# Altium schematic symbol library pre_CONNECTOR.SchLib: 51 symbols
Pins are listed as number, name and electrical type; pins without a type are passive.

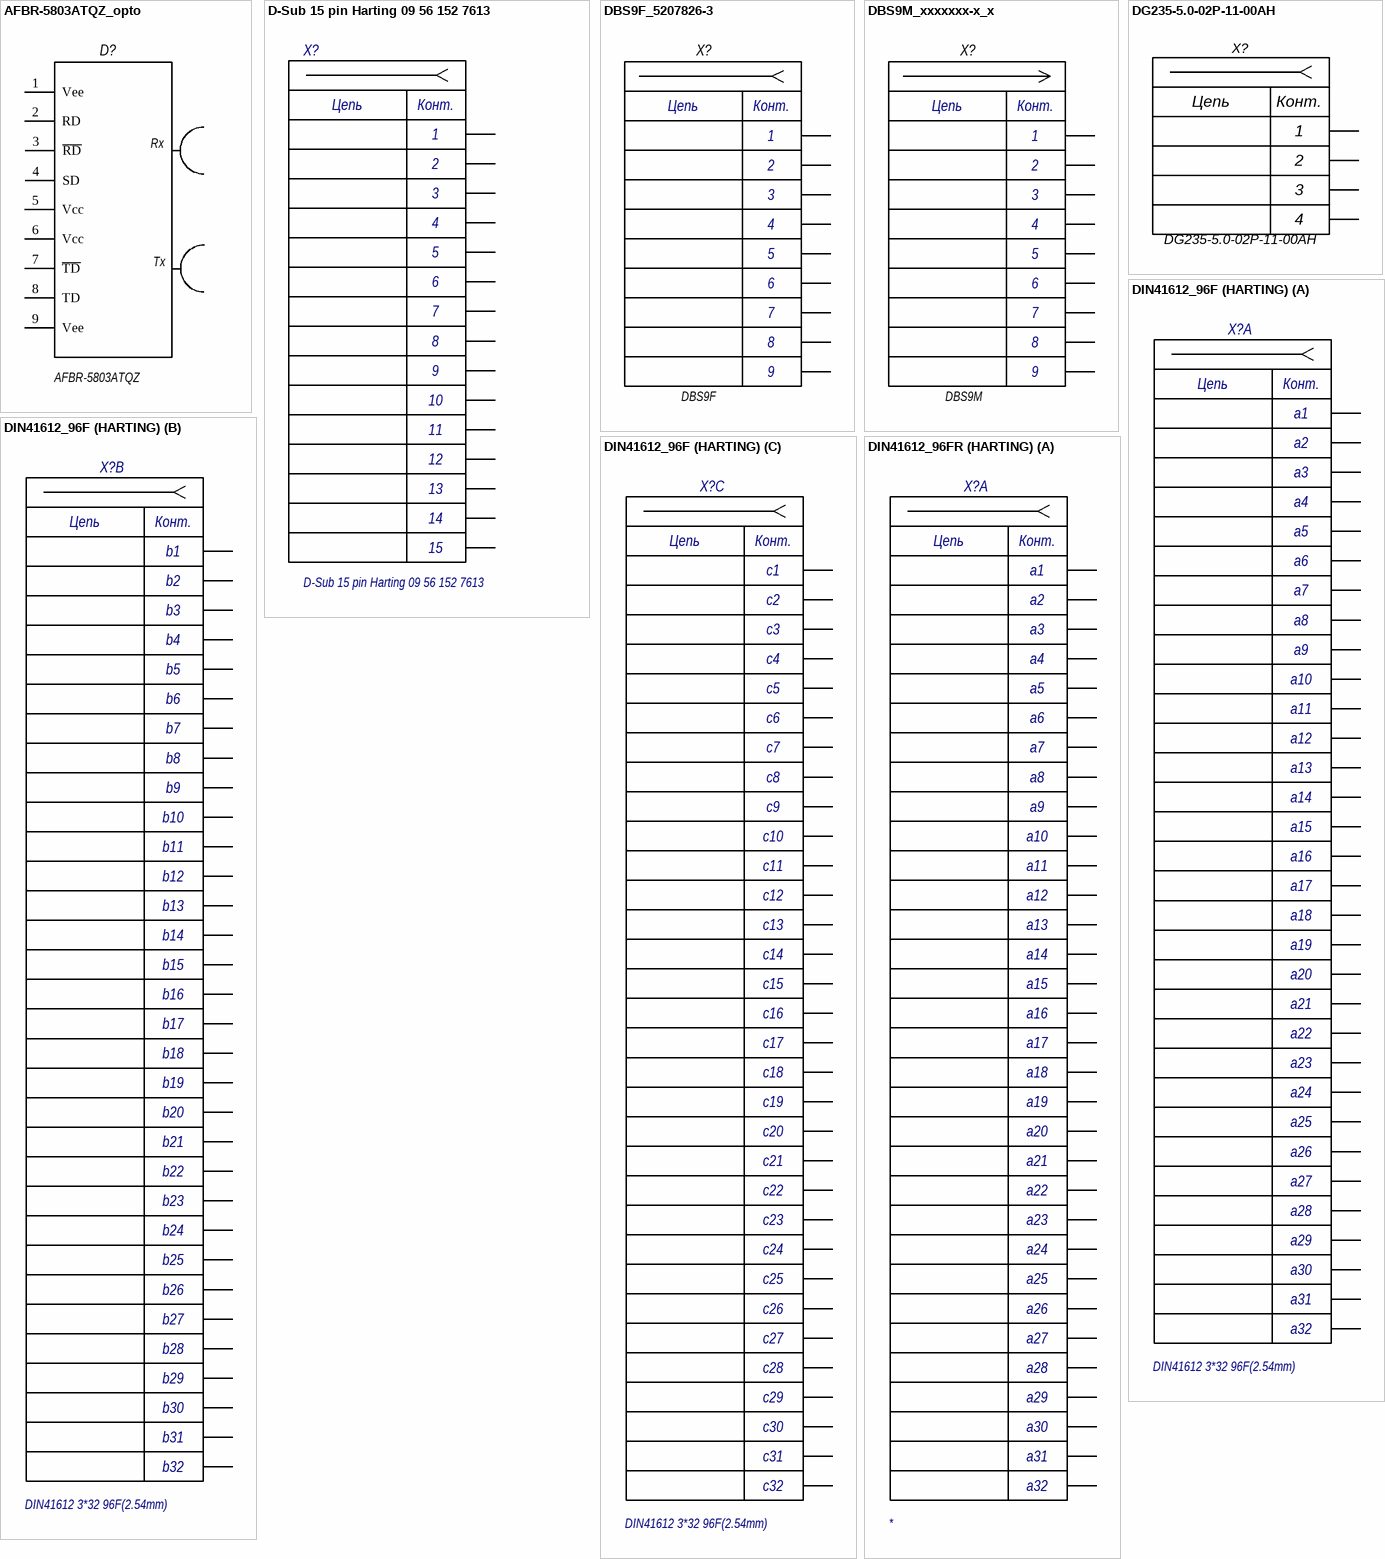
[diagram p0: symbols AFBR-5803ATQZ_opto to DIN41612_96FR (HARTING)]

## AFBR-5803ATQZ_opto
designator D?  Type: AFBR-5803ATQZ  (hidden comment: AFBR-5803ATQZ_opto)
footprint AFBR-5803ATQZ (D?)
pins: 1 Vee, 2 RD, 3 ~{RD}, 4 SD, 5 Vcc, 6 Vcc, 7 ~{TD}, 8 TD, 9 Vee
text: Rx; Tx

## D-Sub 15 pin Harting 09 56 152 7613
designator X?  Type: D-Sub 15 pin Harting 09 56 152 7613  (hidden comment: *)
Розетка D-Sub 15конт Harting 09 56 152 7613
footprint D-SUB HD 15P (09 56 152 7613)
pins: 1, 2, 3, 4, 5, 6, 7, 8, 9, 10, 11, 12, 13, 14, 15
text: Цепь; Конт.

## DBS9F_5207826-3
designator X?  Type: DBS9F  (hidden comment: *)
footprint DBS9F_5207826-3
pins: 1, 2, 3, 4, 5, 6, 7, 8, 9
text: Цепь; Конт.

## DBS9M_xxxxxxx-x_x
designator X?  Type: DBS9M  (hidden comment: *)
footprint DBS9M
pins: 1, 2, 3, 4, 5, 6, 7, 8, 9
text: Цепь; Конт.

## DG235-5.0-02P-11-00AH
designator X?  Type: DG235-5.0-02P-11-00AH  (hidden comment: *)
footprint DG235-5.0-02P-11-00AH
pins: 1, 2, 3, 4
text: Цепь; Конт.

## DIN41612_96F (HARTING)
designator X?  Type: DIN41612 3*32 96F(2.54mm)  (hidden comment: *)
footprint DIN41612 3*32 96F(2.54mm)
part A pins: a1, a2, a3, a4, a5, a6, a7, a8, a9, a10, a11, a12, a13, a14, a15, a16, a17, a18, a19, a20, a21, a22, a23, a24, a25, a26, a27, a28, a29, a30, a31, a32
part B pins: b1, b2, b3, b4, b5, b6, b7, b8, b9, b10, b11, b12, b13, b14, b15, b16, b17, b18, b19, b20, b21, b22, b23, b24, b25, b26, b27, b28, b29, b30, b31, b32
part C pins: c1, c2, c3, c4, c5, c6, c7, c8, c9, c10, c11, c12, c13, c14, c15, c16, c17, c18, c19, c20, c21, c22, c23, c24, c25, c26, c27, c28, c29, c30, c31, c32
part A text: Цепь; Конт.
part B text: Цепь; Конт.
part C text: Цепь; Конт.

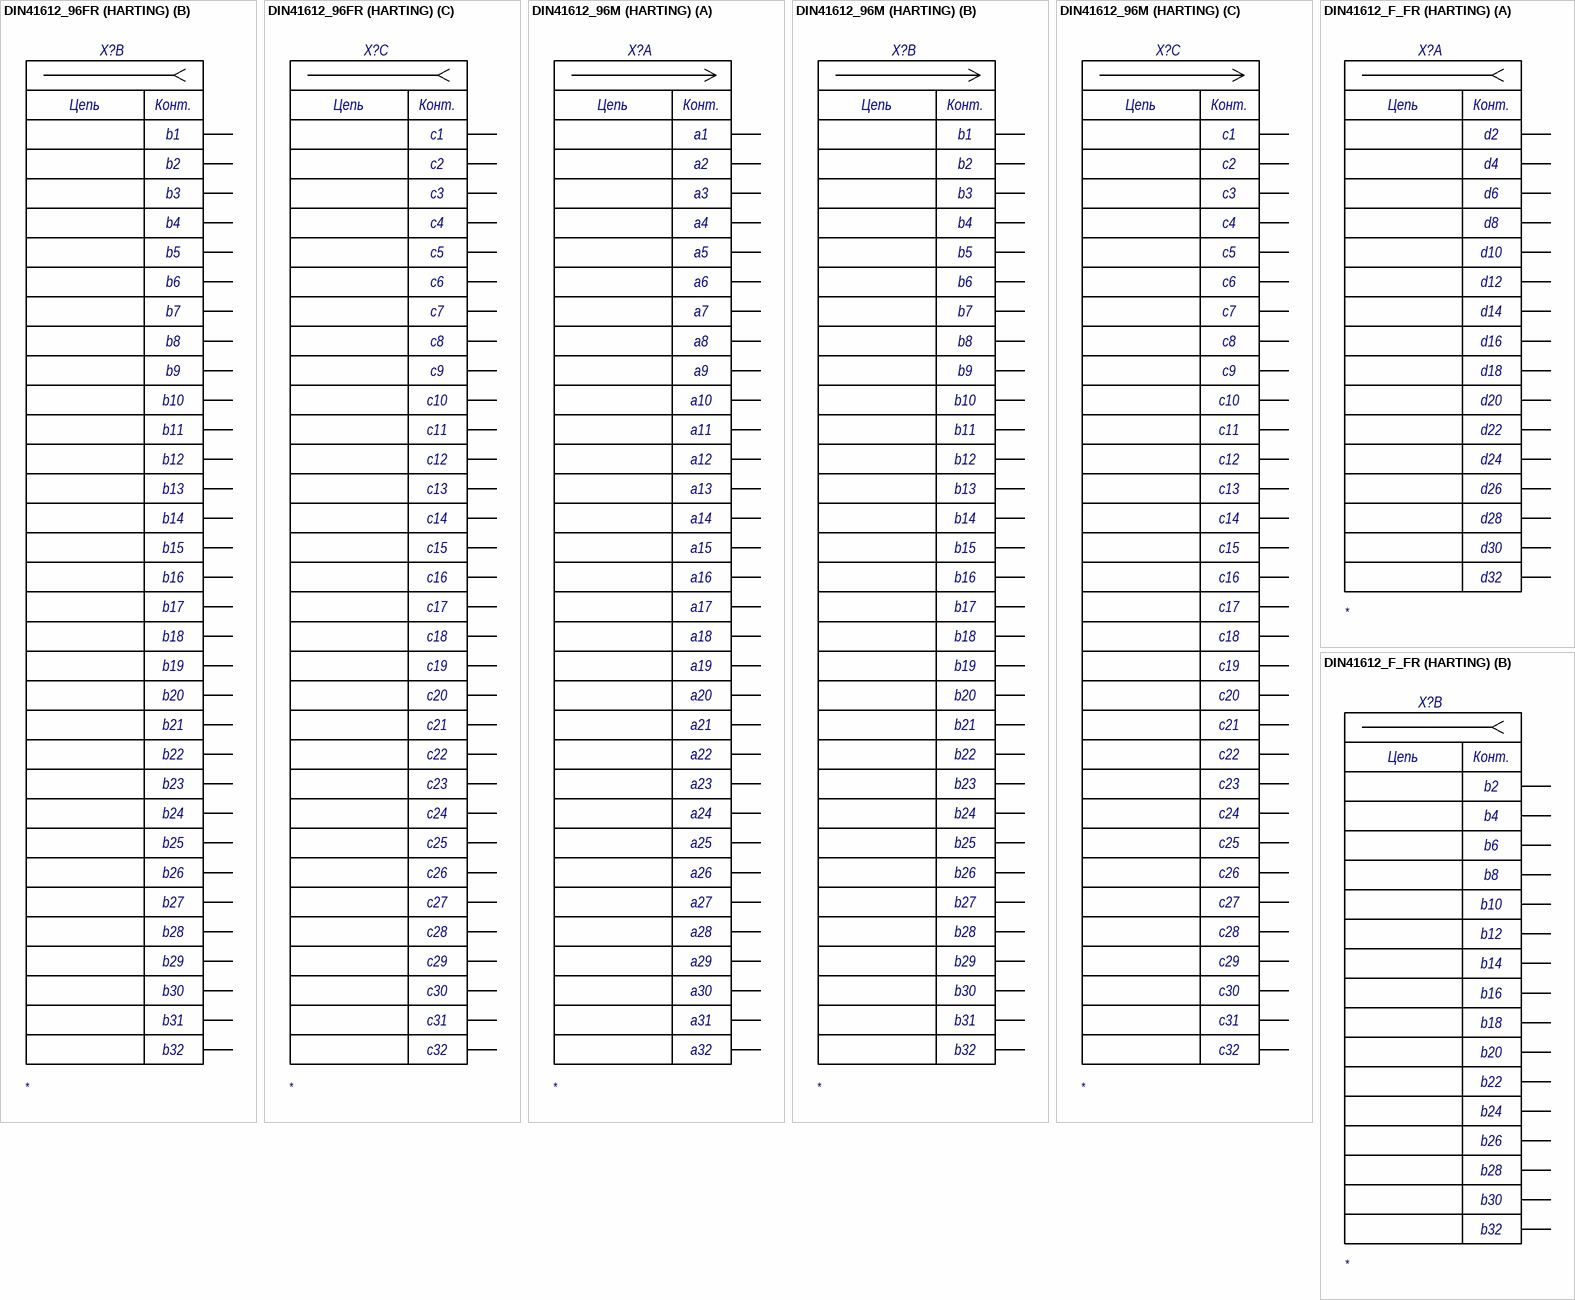
[diagram p1: symbols DIN41612_96FR (HARTING) to DIN41612_F_FR (HARTING)]

## DIN41612_96FR (HARTING)
designator X?
Type: *
footprint DIN41612 3x32 96FR (96-Pin DIN Standard Right Angle Male PCB Mount Connector Розетка)
part A pins: a1, a2, a3, a4, a5, a6, a7, a8, a9, a10, a11, a12, a13, a14, a15, a16, a17, a18, a19, a20, a21, a22, a23, a24, a25, a26, a27, a28, a29, a30, a31, a32
part B pins: b1, b2, b3, b4, b5, b6, b7, b8, b9, b10, b11, b12, b13, b14, b15, b16, b17, b18, b19, b20, b21, b22, b23, b24, b25, b26, b27, b28, b29, b30, b31, b32
part C pins: c1, c2, c3, c4, c5, c6, c7, c8, c9, c10, c11, c12, c13, c14, c15, c16, c17, c18, c19, c20, c21, c22, c23, c24, c25, c26, c27, c28, c29, c30, c31, c32
part A text: Цепь; Конт.
part B text: Цепь; Конт.
part C text: Цепь; Конт.

## DIN41612_96M (HARTING)
designator X?
Type: *
footprint DIN41612 3x32 96MR (96-Pin DIN Standard Right Angle Male PCB Mount Connector Вилка)
part A pins: a1, a2, a3, a4, a5, a6, a7, a8, a9, a10, a11, a12, a13, a14, a15, a16, a17, a18, a19, a20, a21, a22, a23, a24, a25, a26, a27, a28, a29, a30, a31, a32
part B pins: b1, b2, b3, b4, b5, b6, b7, b8, b9, b10, b11, b12, b13, b14, b15, b16, b17, b18, b19, b20, b21, b22, b23, b24, b25, b26, b27, b28, b29, b30, b31, b32
part C pins: c1, c2, c3, c4, c5, c6, c7, c8, c9, c10, c11, c12, c13, c14, c15, c16, c17, c18, c19, c20, c21, c22, c23, c24, c25, c26, c27, c28, c29, c30, c31, c32
part A text: Цепь; Конт.
part B text: Цепь; Конт.
part C text: Цепь; Конт.

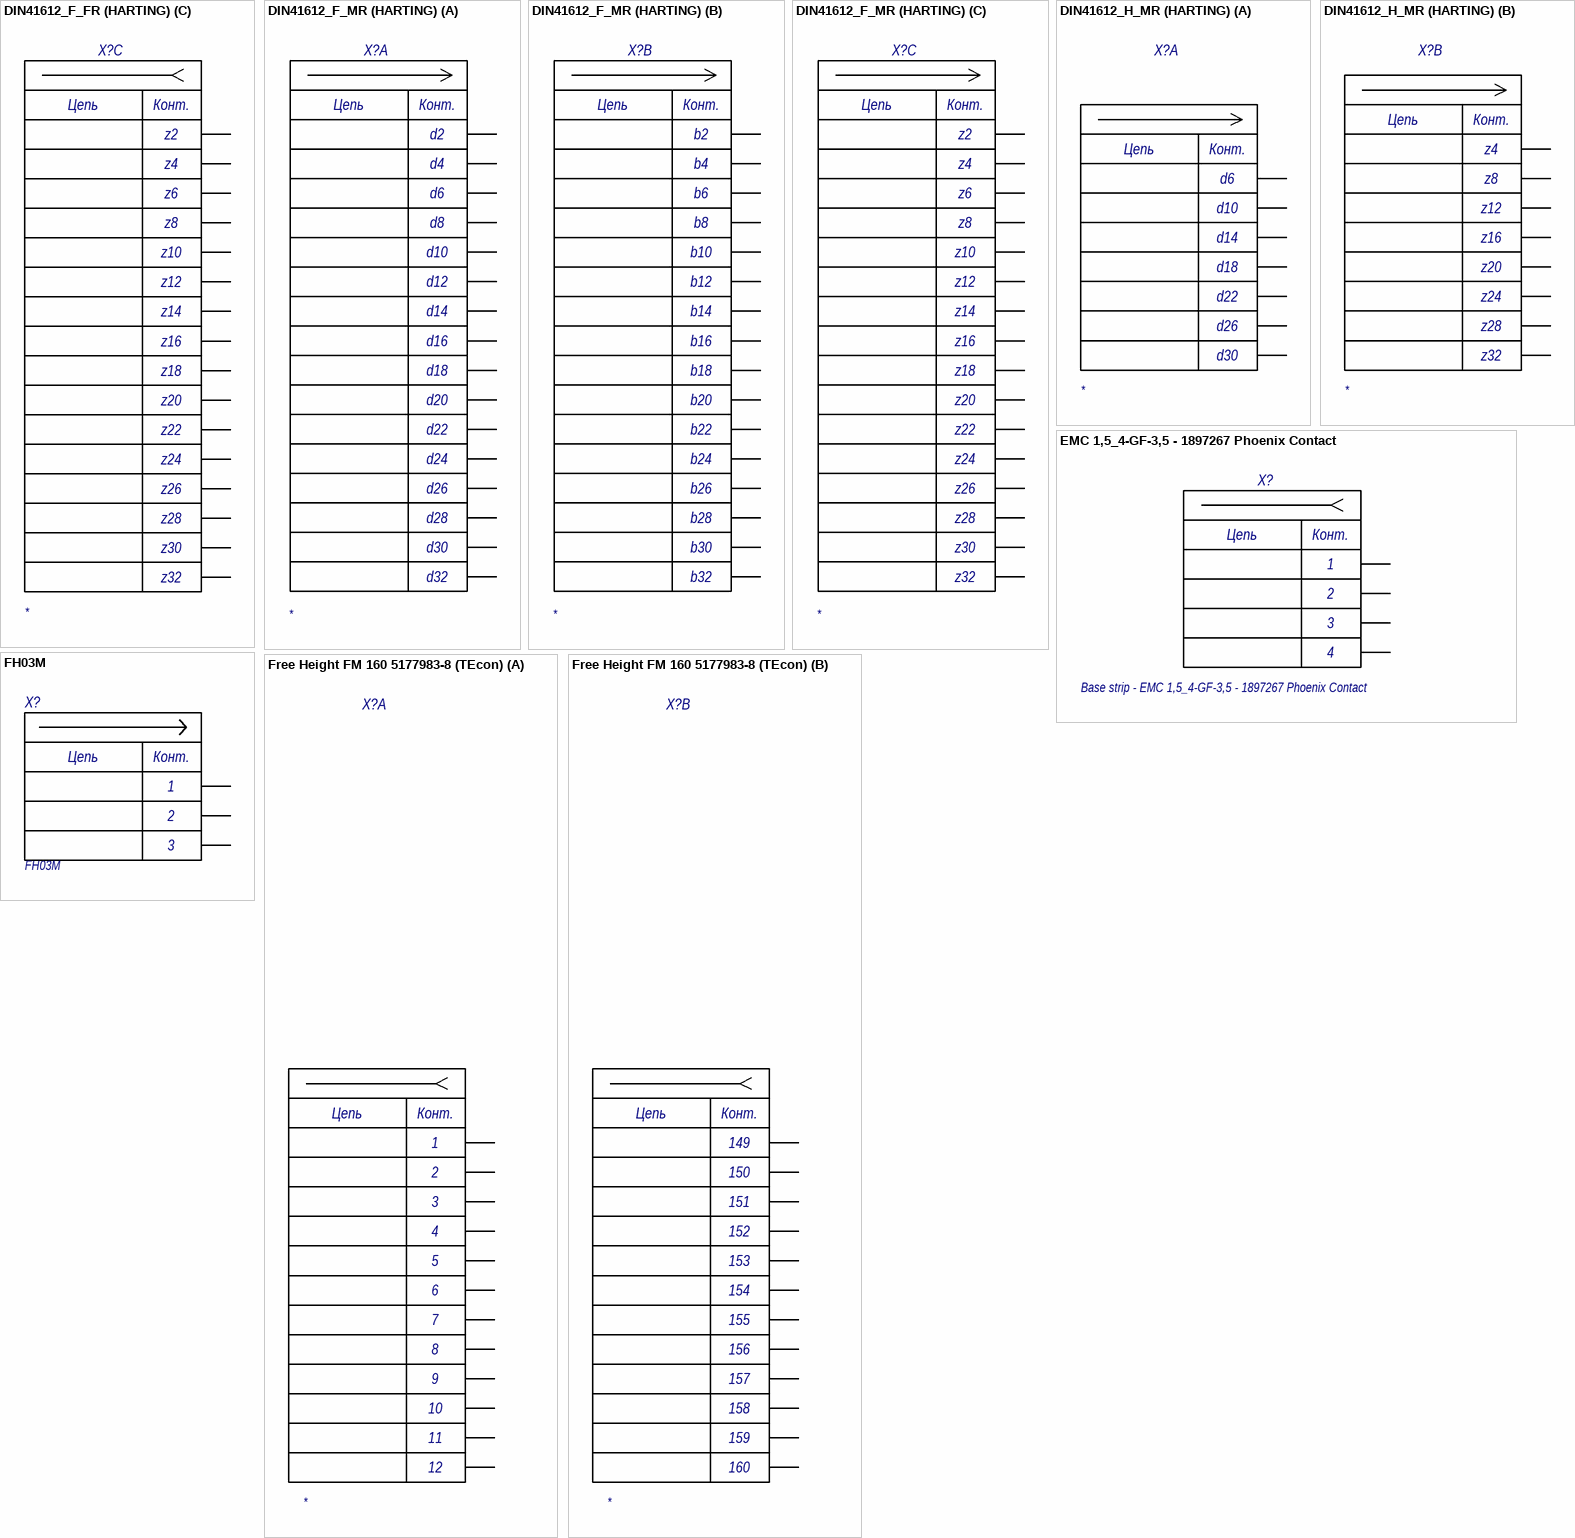
[diagram p2: symbols DIN41612_F_FR (HARTING) to Free Height FM 160 5177983-8 (TEcon)]

## DIN41612_F_FR (HARTING)
designator X?
Type: *
footprint DIN41612_F_FR (HARTING) 09 06 248 68 26 (Розетка Harting 41612 Тип F)
footprint DIN41612_F_FR A (HARTING) 09 06 248 68 26 (Розетка Harting 41612 Тип F)
part A pins: d2, d4, d6, d8, d10, d12, d14, d16, d18, d20, d22, d24, d26, d28, d30, d32
part B pins: b2, b4, b6, b8, b10, b12, b14, b16, b18, b20, b22, b24, b26, b28, b30, b32
part C pins: z2, z4, z6, z8, z10, z12, z14, z16, z18, z20, z22, z24, z26, z28, z30, z32
part A text: Цепь; Конт.
part B text: Цепь; Конт.
part C text: Цепь; Конт.

## DIN41612_F_MR (HARTING)
designator X?
Type: *
footprint DIN41612_F_MR (HARTING)
part A pins: d2, d4, d6, d8, d10, d12, d14, d16, d18, d20, d22, d24, d26, d28, d30, d32
part B pins: b2, b4, b6, b8, b10, b12, b14, b16, b18, b20, b22, b24, b26, b28, b30, b32
part C pins: z2, z4, z6, z8, z10, z12, z14, z16, z18, z20, z22, z24, z26, z28, z30, z32
part A text: Цепь; Конт.
part B text: Цепь; Конт.
part C text: Цепь; Конт.

## DIN41612_H_MR (HARTING)
designator X?
footprint DIN41612_H_MR (Harting)
part A pins: d6, d10, d14, d18, d22, d26, d30
part B pins: z4, z8, z12, z16, z20, z24, z28, z32
part A text: Цепь; Конт.
part B text: Цепь; Конт.

## EMC 1,5_4-GF-3,5 - 1897267 Phoenix Contact
designator X?  Type: Base strip - EMC 1,5_4-GF-3,5 - 1897267 Phoenix Contact  (hidden comment: *)
Клемма Base strip - EMC 1,5_4-GF-3,5 - 1897267 Phoenix Contact
footprint EMC 1,5_4-GF-3,5 - 1897267 (Клемма Base strip - EMC 1,5_4-GF-3,5 - 1897267 Phoenix Contact)
pins: 1, 2, 3, 4
text: Цепь; Конт.

## FH03M
designator X?
Type_analog: Molex 53047-0310; Type: FH03M
footprint FH03M
pins: 1, 2, 3
text: Цепь; Конт.

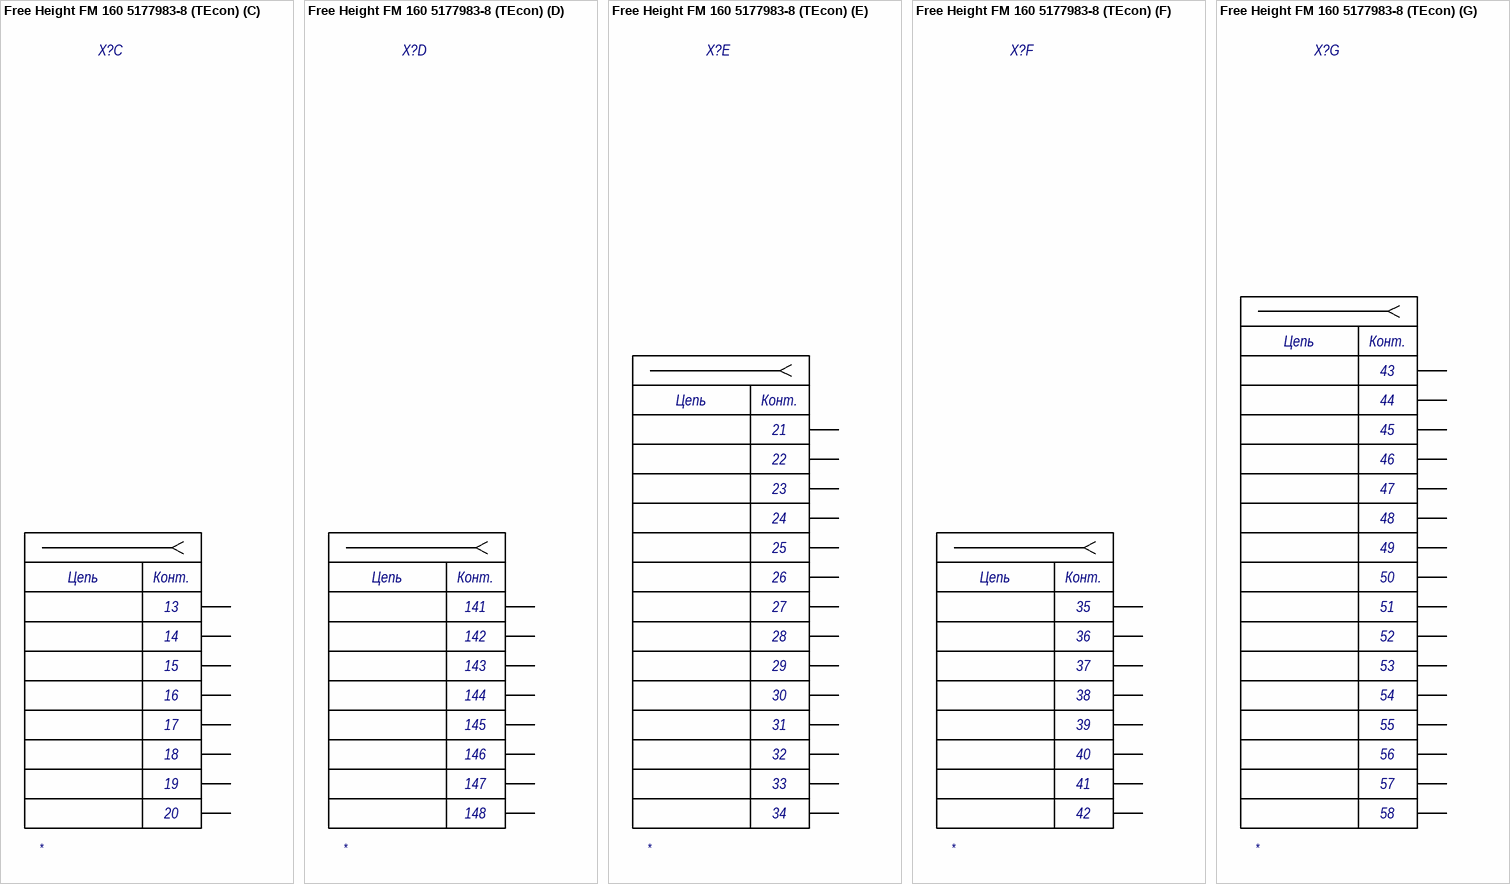
[diagram p3: symbol Free Height FM 160 5177983-8 (TEcon)]

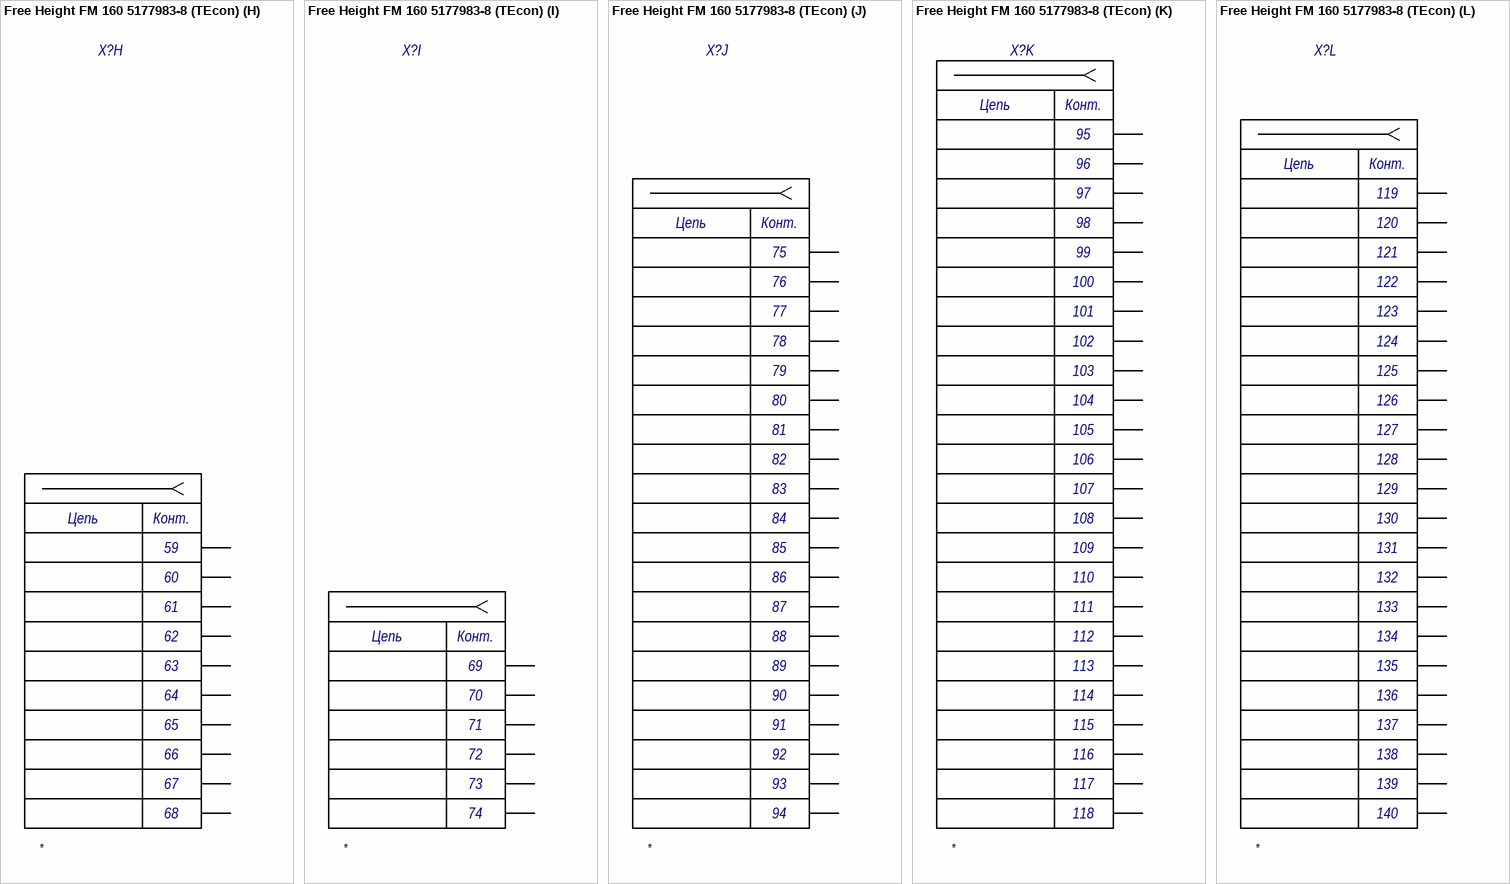
[diagram p4: symbol Free Height FM 160 5177983-8 (TEcon)]

## Free Height FM 160 5177983-8 (TEcon)
designator X?
Type: Free Height FM 160 5177983-8 (TEcon)
footprint Free Height F 160 5177983-8 (TEcon)
part A pins: 1, 2, 3, 4, 5, 6, 7, 8, 9, 10, 11, 12
part B pins: 149, 150, 151, 152, 153, 154, 155, 156, 157, 158, 159, 160
part C pins: 13, 14, 15, 16, 17, 18, 19, 20
part D pins: 141, 142, 143, 144, 145, 146, 147, 148
part E pins: 21, 22, 23, 24, 25, 26, 27, 28, 29, 30, 31, 32, 33, 34
part F pins: 35, 36, 37, 38, 39, 40, 41, 42
part G pins: 43, 44, 45, 46, 47, 48, 49, 50, 51, 52, 53, 54, 55, 56, 57, 58
part H pins: 59, 60, 61, 62, 63, 64, 65, 66, 67, 68
part I pins: 69, 70, 71, 72, 73, 74
part J pins: 75, 76, 77, 78, 79, 80, 81, 82, 83, 84, 85, 86, 87, 88, 89, 90, 91, 92, 93, 94
part K pins: 95, 96, 97, 98, 99, 100, 101, 102, 103, 104, 105, 106, 107, 108, 109, 110, 111, 112, 113, 114, 115, 116, 117, 118
part L pins: 119, 120, 121, 122, 123, 124, 125, 126, 127, 128, 129, 130, 131, 132, 133, 134, 135, 136, 137, 138, 139, 140
part A text: Цепь; Конт.
part B text: Цепь; Конт.
part C text: Цепь; Конт.
part D text: Цепь; Конт.
part E text: Цепь; Конт.
part F text: Цепь; Конт.
part G text: Цепь; Конт.
part H text: Цепь; Конт.
part I text: Цепь; Конт.
part J text: Цепь; Конт.
part K text: Цепь; Конт.
part L text: Цепь; Конт.

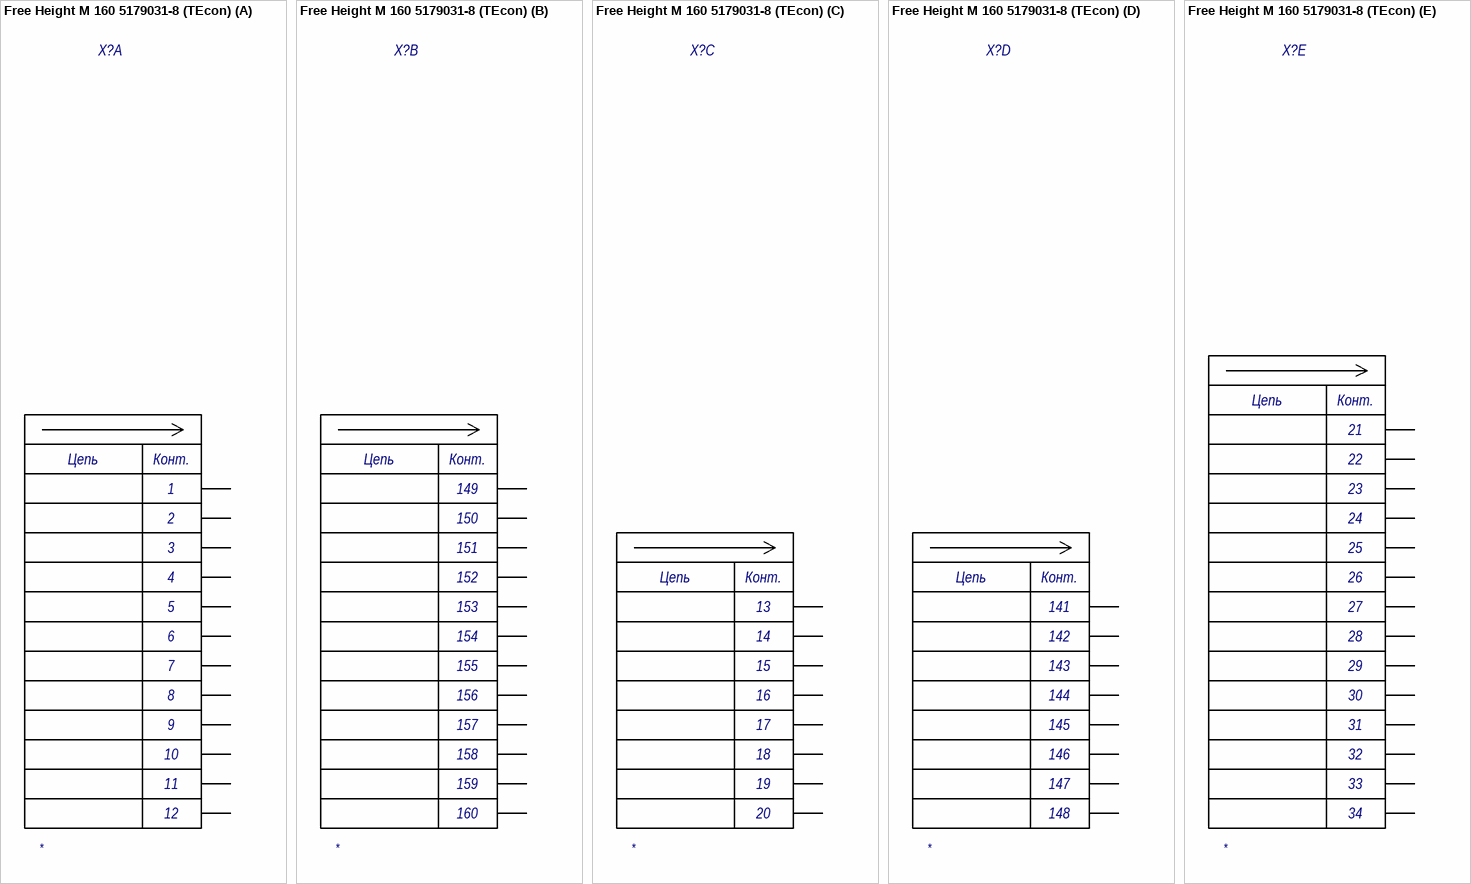
[diagram p5: symbol Free Height M 160 5179031-8 (TEcon)]

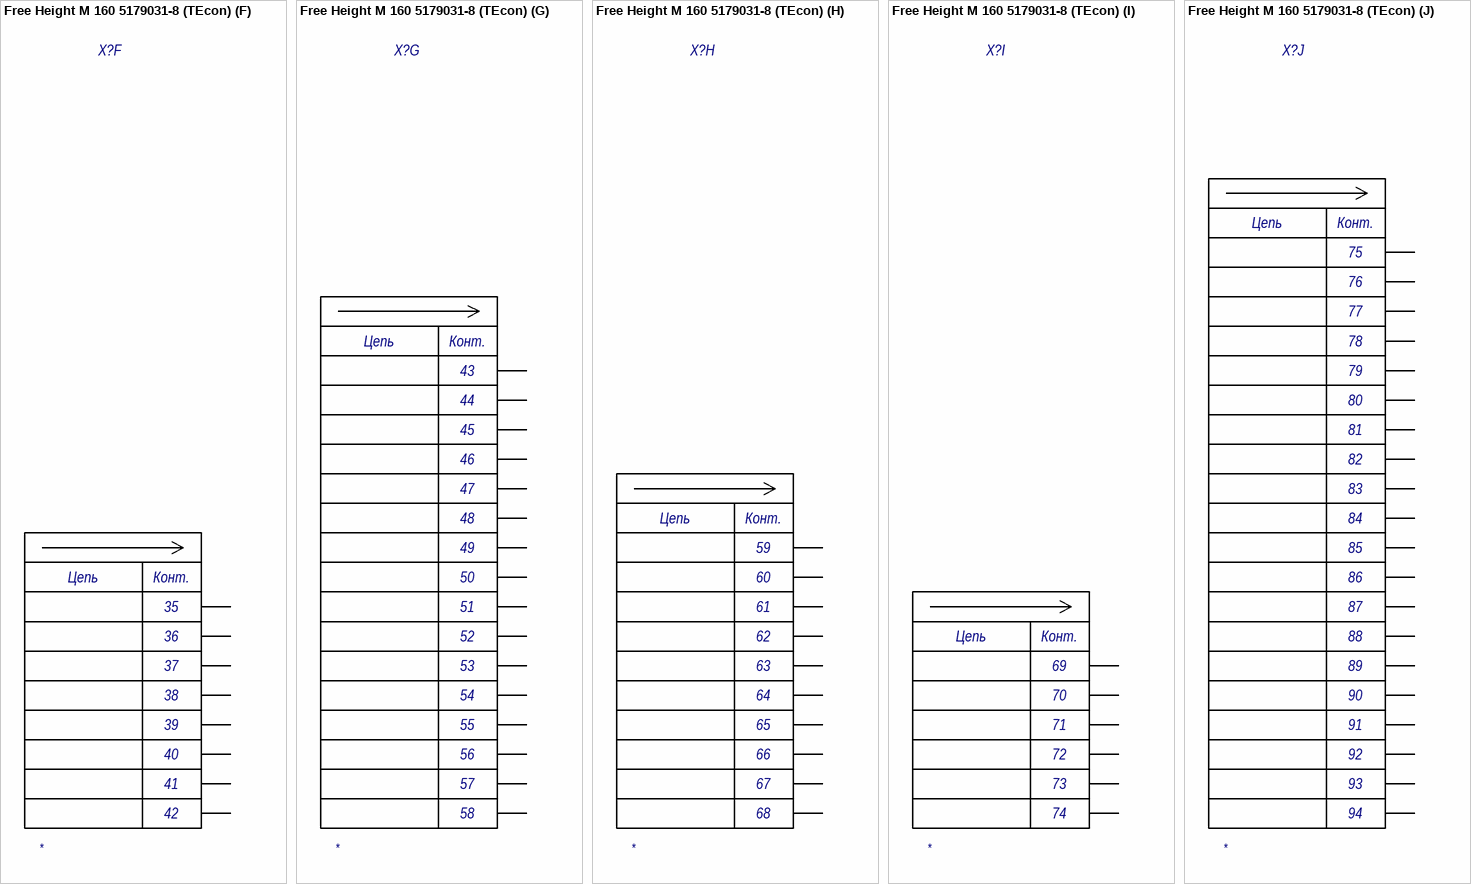
[diagram p6: symbol Free Height M 160 5179031-8 (TEcon)]

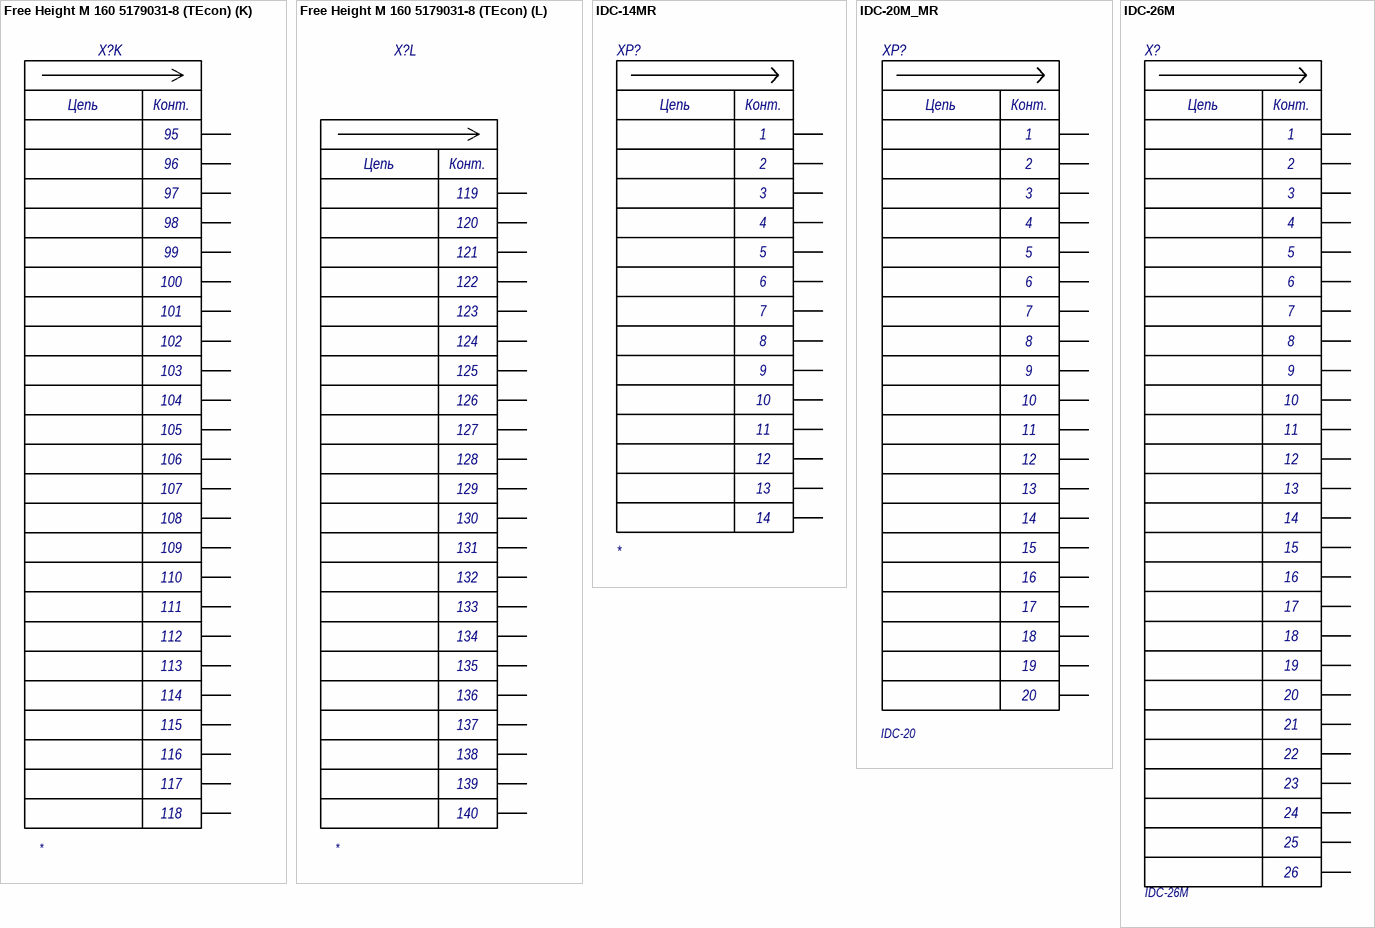
[diagram p7: symbols Free Height M 160 5179031-8 (TEcon) to IDC-26M]

## Free Height M 160 5179031-8 (TEcon)
designator X?
Type: Free Height M 160 5179031-8 (TEcon)
footprint Free Height F 160 5179031-8 (TEcon)
part A pins: 1, 2, 3, 4, 5, 6, 7, 8, 9, 10, 11, 12
part B pins: 149, 150, 151, 152, 153, 154, 155, 156, 157, 158, 159, 160
part C pins: 13, 14, 15, 16, 17, 18, 19, 20
part D pins: 141, 142, 143, 144, 145, 146, 147, 148
part E pins: 21, 22, 23, 24, 25, 26, 27, 28, 29, 30, 31, 32, 33, 34
part F pins: 35, 36, 37, 38, 39, 40, 41, 42
part G pins: 43, 44, 45, 46, 47, 48, 49, 50, 51, 52, 53, 54, 55, 56, 57, 58
part H pins: 59, 60, 61, 62, 63, 64, 65, 66, 67, 68
part I pins: 69, 70, 71, 72, 73, 74
part J pins: 75, 76, 77, 78, 79, 80, 81, 82, 83, 84, 85, 86, 87, 88, 89, 90, 91, 92, 93, 94
part K pins: 95, 96, 97, 98, 99, 100, 101, 102, 103, 104, 105, 106, 107, 108, 109, 110, 111, 112, 113, 114, 115, 116, 117, 118
part L pins: 119, 120, 121, 122, 123, 124, 125, 126, 127, 128, 129, 130, 131, 132, 133, 134, 135, 136, 137, 138, 139, 140
part A text: Цепь; Конт.
part B text: Цепь; Конт.
part C text: Цепь; Конт.
part D text: Цепь; Конт.
part E text: Цепь; Конт.
part F text: Цепь; Конт.
part G text: Цепь; Конт.
part H text: Цепь; Конт.
part I text: Цепь; Конт.
part J text: Цепь; Конт.
part K text: Цепь; Конт.
part L text: Цепь; Конт.

## IDC-14MR
designator XP?
footprint IDC-14MR
pins: 1, 2, 3, 4, 5, 6, 7, 8, 9, 10, 11, 12, 13, 14
text: Цепь; Конт.

## IDC-20M_MR
designator XP?  Type: IDC-20  (hidden comment: *)
footprint IDC-20MR
footprint IDC-20M
pins: 1, 2, 3, 4, 5, 6, 7, 8, 9, 10, 11, 12, 13, 14, 15, 16, 17, 18, 19, 20
text: Цепь; Конт.

## IDC-26M
designator X?  Type: IDC-26M  (hidden comment: *)
footprint IDC-26M
pins: 1, 2, 3, 4, 5, 6, 7, 8, 9, 10, 11, 12, 13, 14, 15, 16, 17, 18, 19, 20, 21, 22, 23, 24, 25, 26
text: Цепь; Конт.

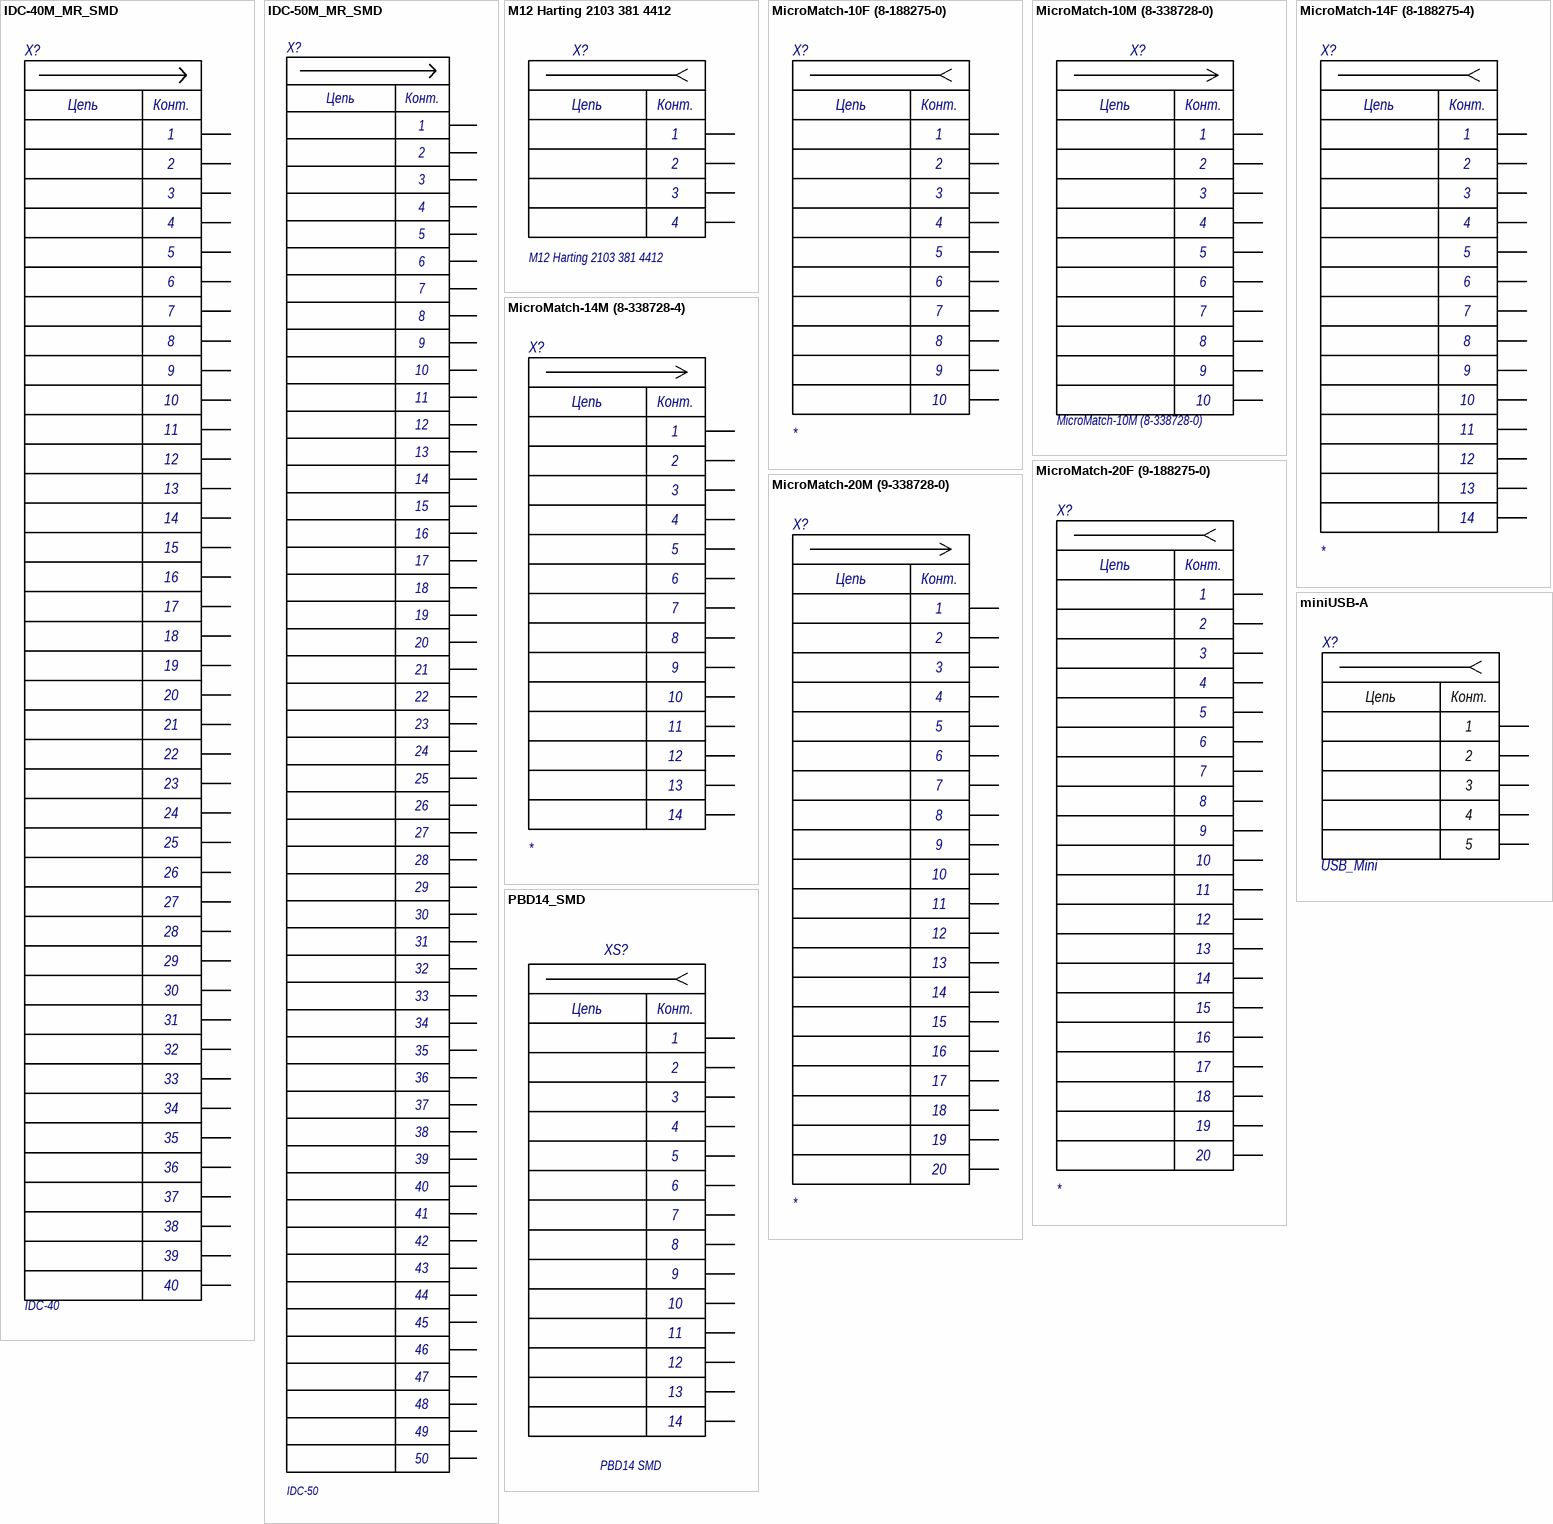
[diagram p8: symbols IDC-40M_MR_SMD to PBD14_SMD]

## IDC-40M_MR_SMD
designator X?  Type: IDC-40  (hidden comment: *)
footprint IDC-40MR
footprint IDC-40M
footprint IDC-40_SMD
pins: 1, 2, 3, 4, 5, 6, 7, 8, 9, 10, 11, 12, 13, 14, 15, 16, 17, 18, 19, 20, 21, 22, 23, 24, 25, 26, 27, 28, 29, 30, 31, 32, 33, 34, 35, 36, 37, 38, 39, 40
text: Цепь; Конт.

## IDC-50M_MR_SMD
designator X?  Type: IDC-50  (hidden comment: *)
footprint IDC-50MR
footprint IDC-50M
footprint IDC-50M_SMD
pins: 1, 2, 3, 4, 5, 6, 7, 8, 9, 10, 11, 12, 13, 14, 15, 16, 17, 18, 19, 20, 21, 22, 23, 24, 25, 26, 27, 28, 29, 30, 31, 32, 33, 34, 35, 36, 37, 38, 39, 40, 41, 42, 43, 44, 45, 46, 47, 48, 49, 50
text: Цепь; Конт.

## M12 Harting 2103 381 4412
designator X?
Type: M12 Harting 2103 381 4412
footprint M12 Harting 2103 381 4412 (Розетка M12 Harting HAN M12 female, D-coded, 4pol 2103 381 4412)
pins: 1, 2, 3, 4
text: Цепь; Конт.

## MicroMatch-10F (8-188275-0)
designator X?
Type: MicroMatch-10F (8-188275-0)
footprint 8-188275-0
pins: 1, 2, 3, 4, 5, 6, 7, 8, 9, 10
text: Цепь; Конт.

## MicroMatch-10M (8-338728-0)
designator X?  Type: MicroMatch-10M (8-338728-0)  (hidden comment: *)
footprint 8-338728-0
pins: 1, 2, 3, 4, 5, 6, 7, 8, 9, 10
text: Цепь; Конт.

## MicroMatch-14F (8-188275-4)
designator X?
Type: MicroMatch-14F (8-188275-4)
footprint 8-188275-4
pins: 1, 2, 3, 4, 5, 6, 7, 8, 9, 10, 11, 12, 13, 14
text: Цепь; Конт.

## MicroMatch-14M (8-338728-4)
designator X?
Type: MicroMatch-14M (8-338728-4)
footprint 8-338728-4
pins: 1, 2, 3, 4, 5, 6, 7, 8, 9, 10, 11, 12, 13, 14
text: Цепь; Конт.

## MicroMatch-20F (9-188275-0)
designator X?
Type: MicroMatch-20F (9-188275-0)
footprint 9-188275-0
pins: 1, 2, 3, 4, 5, 6, 7, 8, 9, 10, 11, 12, 13, 14, 15, 16, 17, 18, 19, 20
text: Цепь; Конт.

## MicroMatch-20M (9-338728-0)
designator X?
Type: MicroMatch-20M (9-338728-0)
footprint 9-338728-0
pins: 1, 2, 3, 4, 5, 6, 7, 8, 9, 10, 11, 12, 13, 14, 15, 16, 17, 18, 19, 20
text: Цепь; Конт.

## miniUSB-A
designator X?, comment USB_Mini
Mini_USB_A; Type: USB_Mini
footprint Mini_USB_A
pins: 1, 2, 3, 4, 5
text: Цепь; Конт.

## PBD14_SMD
designator XS?, comment PBD14 SMD
Type: PBD14 SMD
footprint PBD14SMD
footprint PLD14SMD-MIRROR
pins: 1, 2, 3, 4, 5, 6, 7, 8, 9, 10, 11, 12, 13, 14
text: Цепь; Конт.

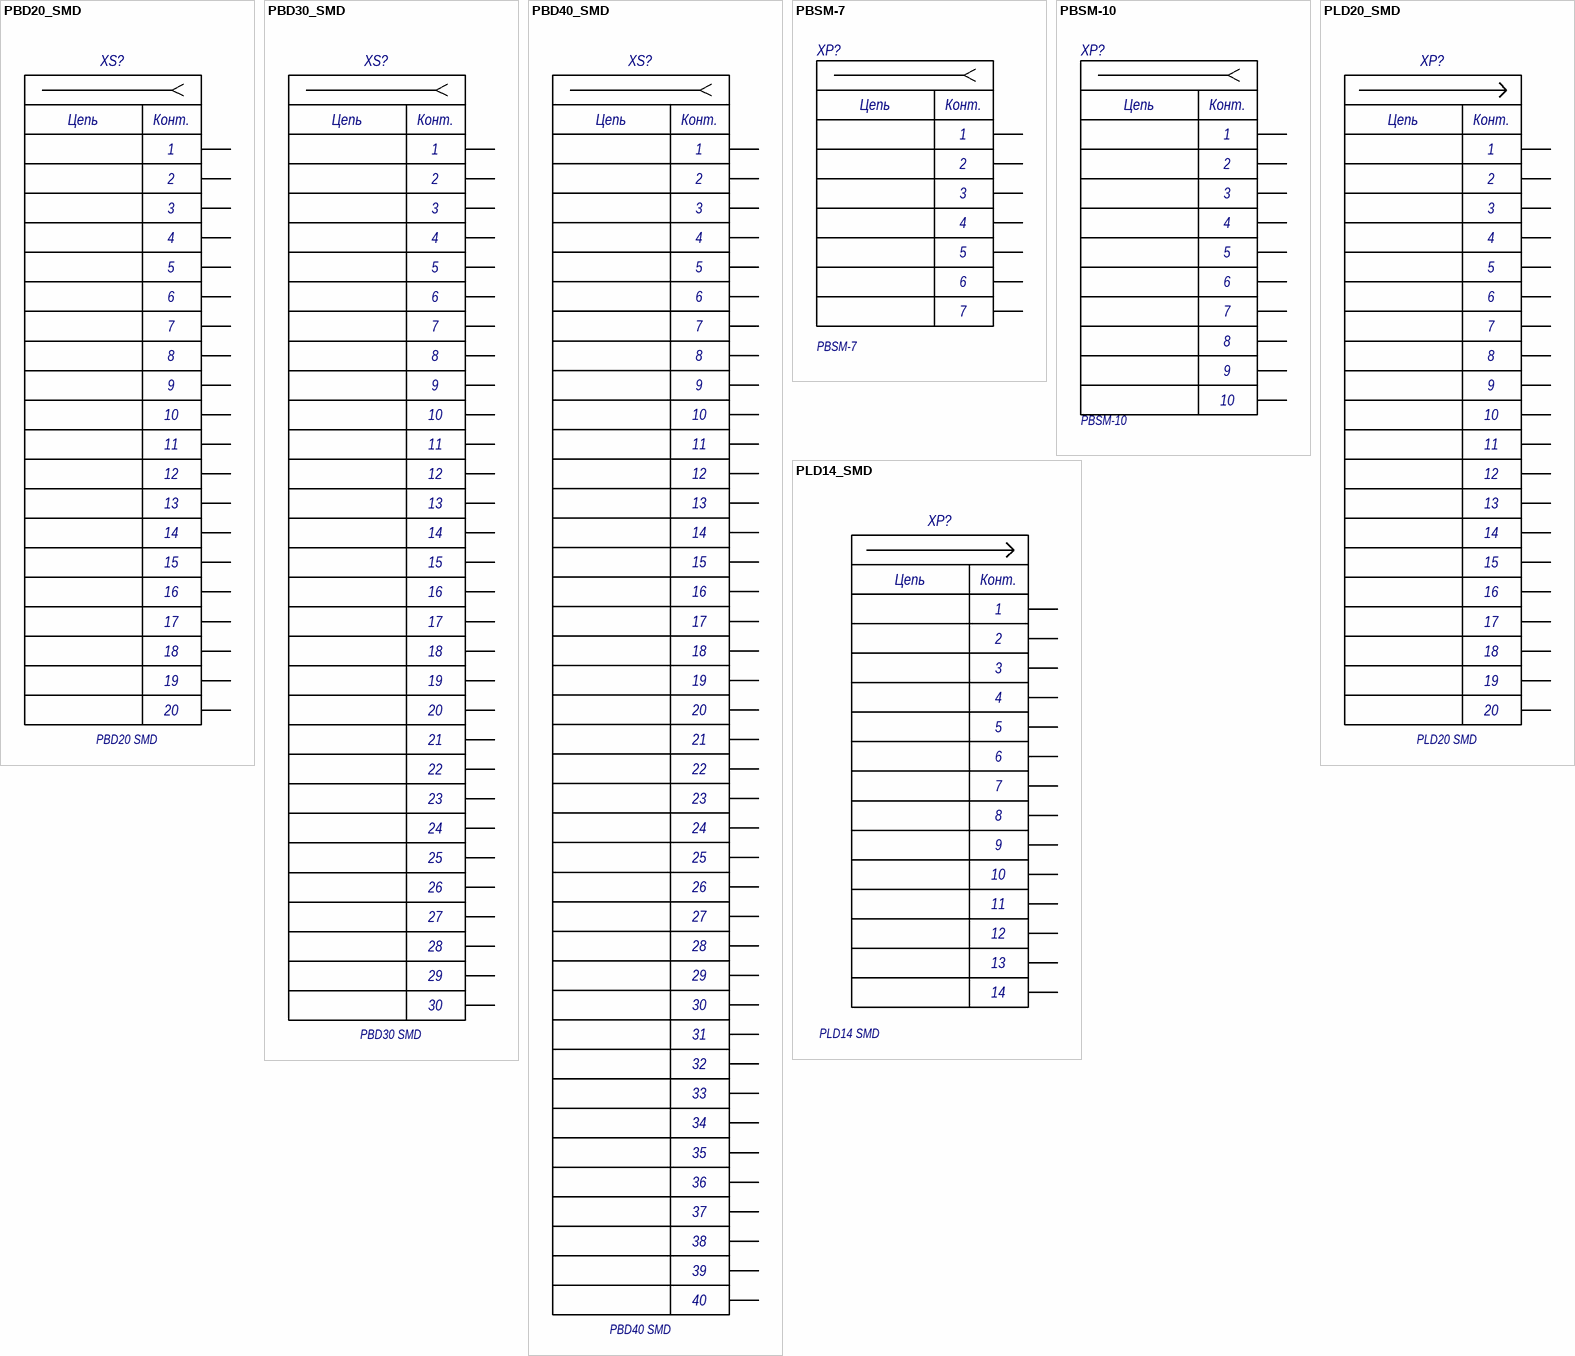
[diagram p9: symbols PBD20_SMD to PLD20_SMD]

## PBD20_SMD
designator XS?, comment PBD20 SMD
Type: PBD20 SMD
footprint PBD20SMD
footprint PBD20SMD-MIRROR
pins: 1, 2, 3, 4, 5, 6, 7, 8, 9, 10, 11, 12, 13, 14, 15, 16, 17, 18, 19, 20
text: Цепь; Конт.

## PBD30_SMD
designator XS?, comment PBD30 SMD
Type: PBD30 SMD
footprint PBD30SMD
footprint PBD30SMD-MIRROR
pins: 1, 2, 3, 4, 5, 6, 7, 8, 9, 10, 11, 12, 13, 14, 15, 16, 17, 18, 19, 20, 21, 22, 23, 24, 25, 26, 27, 28, 29, 30
text: Цепь; Конт.

## PBD40_SMD
designator XS?, comment PBD40 SMD
Type: PBD40 SMD
footprint Model Name (Footprint not found)
footprint KLS1-208B-4.3-2-40-T3(PBD2-40) (Female Header, Pitch 2.0mm)
footprint KLS1-208C-4.3-2-40-T3(PBD1,27-40) (Female Header, Pitch 1.27mm)
footprint KLS1-208B-4.3-2-40-T3(PBD2-40)_MIRROR (Female Header, Pitch 2.0mm)
pins: 1, 2, 3, 4, 5, 6, 7, 8, 9, 10, 11, 12, 13, 14, 15, 16, 17, 18, 19, 20, 21, 22, 23, 24, 25, 26, 27, 28, 29, 30, 31, 32, 33, 34, 35, 36, 37, 38, 39, 40
text: Цепь; Конт.

## PBSM-7
designator XP?
Type: PBSM-7
footprint PLSM-7
pins: 1, 2, 3, 4, 5, 6, 7
text: Цепь; Конт.

## PBSM-10
designator XP?
Type: PBSM-10
footprint PLSM-10
pins: 1, 2, 3, 4, 5, 6, 7, 8, 9, 10
text: Цепь; Конт.

## PLD14_SMD
designator XP?, comment PLD14 SMD
Type: PLD14 SMD
footprint PLD14SMD
footprint PLD14SMD-MIRROR
pins: 1, 2, 3, 4, 5, 6, 7, 8, 9, 10, 11, 12, 13, 14
text: Цепь; Конт.

## PLD20_SMD
designator XP?, comment PLD20 SMD
Type: PLD20 SMD
footprint PLD20SMD
footprint PLD20SMD-MIRROR
pins: 1, 2, 3, 4, 5, 6, 7, 8, 9, 10, 11, 12, 13, 14, 15, 16, 17, 18, 19, 20
text: Цепь; Конт.

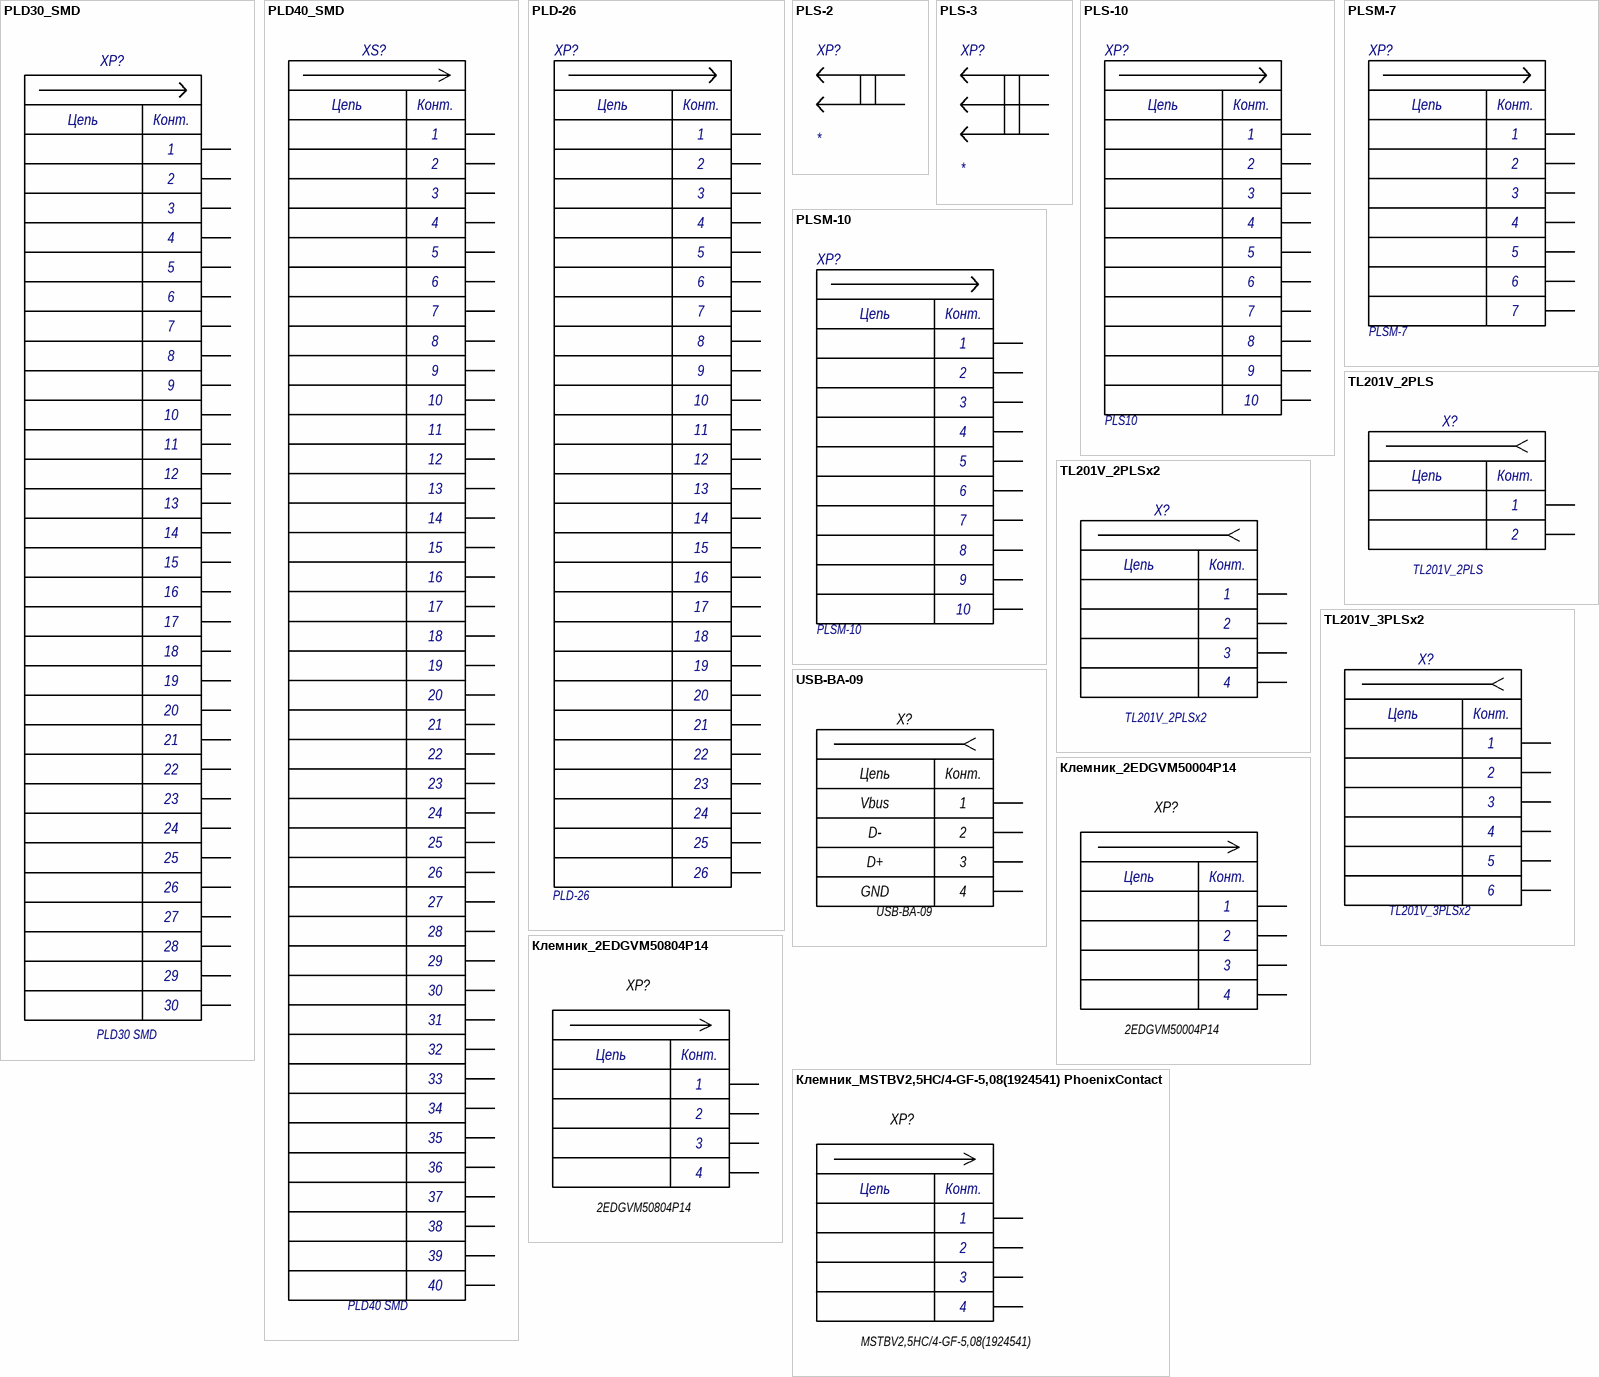
[diagram p10: symbols PLD30_SMD to Клемник_MSTBV2,5HC/4-GF-5,08(1924541) PhoenixContact]

## PLD30_SMD
designator XP?, comment PLD30 SMD
Type: PLD30 SMD
footprint PLD30SMD
footprint PLD30SMD-MIRROR
pins: 1, 2, 3, 4, 5, 6, 7, 8, 9, 10, 11, 12, 13, 14, 15, 16, 17, 18, 19, 20, 21, 22, 23, 24, 25, 26, 27, 28, 29, 30
text: Цепь; Конт.

## PLD40_SMD
designator XS?, comment PLD40 SMD
Type: PLD40 SMD
footprint 5PH2MSA20-240T0PNBU-040 (Female Header, Pitch 2.0mm)
pins: 1, 2, 3, 4, 5, 6, 7, 8, 9, 10, 11, 12, 13, 14, 15, 16, 17, 18, 19, 20, 21, 22, 23, 24, 25, 26, 27, 28, 29, 30, 31, 32, 33, 34, 35, 36, 37, 38, 39, 40
text: Цепь; Конт.

## PLD-26
designator XP?, comment Type: PLD-26  (hidden comment: PLD26)
footprint PLD-26
pins: 1, 2, 3, 4, 5, 6, 7, 8, 9, 10, 11, 12, 13, 14, 15, 16, 17, 18, 19, 20, 21, 22, 23, 24, 25, 26
text: Цепь; Конт.

## PLS-2
designator XP?
footprint PLS-2
pins: 1, 2

## PLS-3
designator XP?
footprint PLS-3
pins: 1, 2, 3

## PLS-10
designator XP?  Type: PLS10  (hidden comment: *)
footprint PLS-10
pins: 1, 2, 3, 4, 5, 6, 7, 8, 9, 10
text: Цепь; Конт.

## PLSM-7
designator XP?
Type: PLSM-7
footprint PLSM-7
pins: 1, 2, 3, 4, 5, 6, 7
text: Цепь; Конт.

## PLSM-10
designator XP?
Type: PLSM-10
footprint PLSM-10
pins: 1, 2, 3, 4, 5, 6, 7, 8, 9, 10
text: Цепь; Конт.

## TL201V_2PLS
designator X?
Type_analog: KF301V-5.0-02P_12x2; Type: TL201V_2PLS
footprint TL201V_2PLS
pins: 1, 2
text: Цепь; Конт.

## TL201V_2PLSx2
designator X?
Type_analog: KF301V-5.0-02P_12x2; Type: TL201V_2PLSx2
footprint TL201V_2PLSx2
pins: 1, 2, 3, 4
text: Цепь; Конт.

## TL201V_3PLSx2
designator X?
Type_analog: KF301V-5.0-03P_12x2; Type: TL201V_3PLSx2
footprint TL201V_3PLSx2
pins: 1, 2, 3, 4, 5, 6
text: Цепь; Конт.

## USB-BA-09
designator X?  Type: USB-BA-09  (hidden comment: *)
USB type B
footprint USB-BA-09
pins: 1, 2, 3, 4
text: Цепь; Конт.; Vbus; D-; D+; GND

## Клемник_2EDGVM50004P14
designator XP?  Type: 2EDGVM50004P14  (hidden comment: *)
footprint Клемник 2EDGVM50004P14 (XS?)
pins: 1, 2, 3, 4
text: Цепь; Конт.

## Клемник_2EDGVM50804P14
designator XP?  Type: 2EDGVM50804P14  (hidden comment: *)
footprint Клемник 2EDGVM50804P14 (XS?)
pins: 1, 2, 3, 4
text: Цепь; Конт.

## Клемник_MSTBV2,5HC/4-GF-5,08(1924541) PhoenixContact
designator XP?  Type: MSTBV2,5HC/4-GF-5,08(1924541)  (hidden comment: *)
footprint Клемник MSTBV2,5HC/4-GF-5,08_1924541 (XS?)
pins: 1, 2, 3, 4
text: Цепь; Конт.